# Altium footprint library fcm_2_0603.PcbLib: 1 footprints
Each footprint in its own frame and in the unit in brackets; x right, y up, seen from the top. Pads: shape width x height; smd on the part's side, far side on the other; paste and mask are expansions set on the pad; w line width, h text height; cw(c..) or ccw(c..) is an arc to the next point about the centre after c.
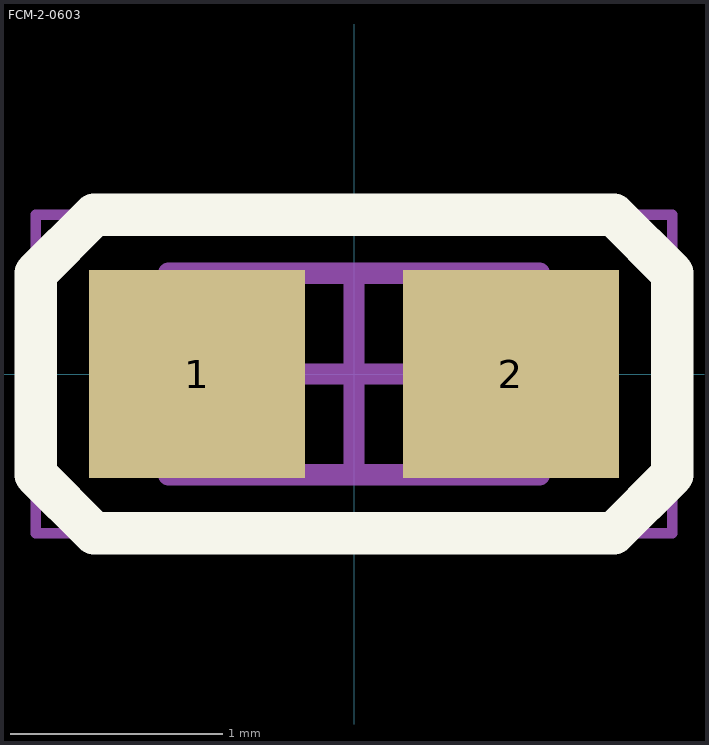
[diagram p0: the footprint, top view; thin cyan lines are the x and y axes]

## FCM-2-0603 [mm] "Chip Ferrite Bead, 2-Leads, Body 1,60x0,80mm, IPC Medium Density"
height 0.8
pads (2):
  rect 1.02x0.98 smd: 1(-0.74,0) 2(0.74,0)
Top Overlay:
  lines w0.2: -1.5,-0.475 -1.5,0.475 -1.225,0.75 1.225,0.75 1.5,0.475 1.5,-0.475 1.225,-0.75 -1.225,-0.75 -1.5,-0.475
Mechanical 7:
  text ".Comment" at 1,1 h1.2
Mechanical 9 (Mech9):
  text ".Designator" at -0.5,1 h1.2
Mechanical 11:
  lines w0.1: -0.875,-0.475 0.875,-0.475 0.875,0.475 -0.875,0.475 -0.875,-0.475
Mechanical 15:
  lines w0.05: -1.5,-0.75 1.5,-0.75 1.5,0.75 -1.5,0.75 -1.5,-0.75
  lines w0.1: -0.475,0 0.475,0 ; 0,-0.475 0,0.475
3D body "BLM 0603.STEP": height 0.8, standoff 0, extent -0.8,-0.375 0.8,0.375